# Altium footprint library switch-dil.PCBLIB: 88 footprints (part 4 of 6)
Each footprint in its own frame and in the unit in brackets; x right, y up, seen from the top. Pads: shape width x height; smd on the part's side, far side on the other; paste and mask are expansions set on the pad; w line width, h text height; cw(c..) or ccw(c..) is an arc to the next point about the centre after c.
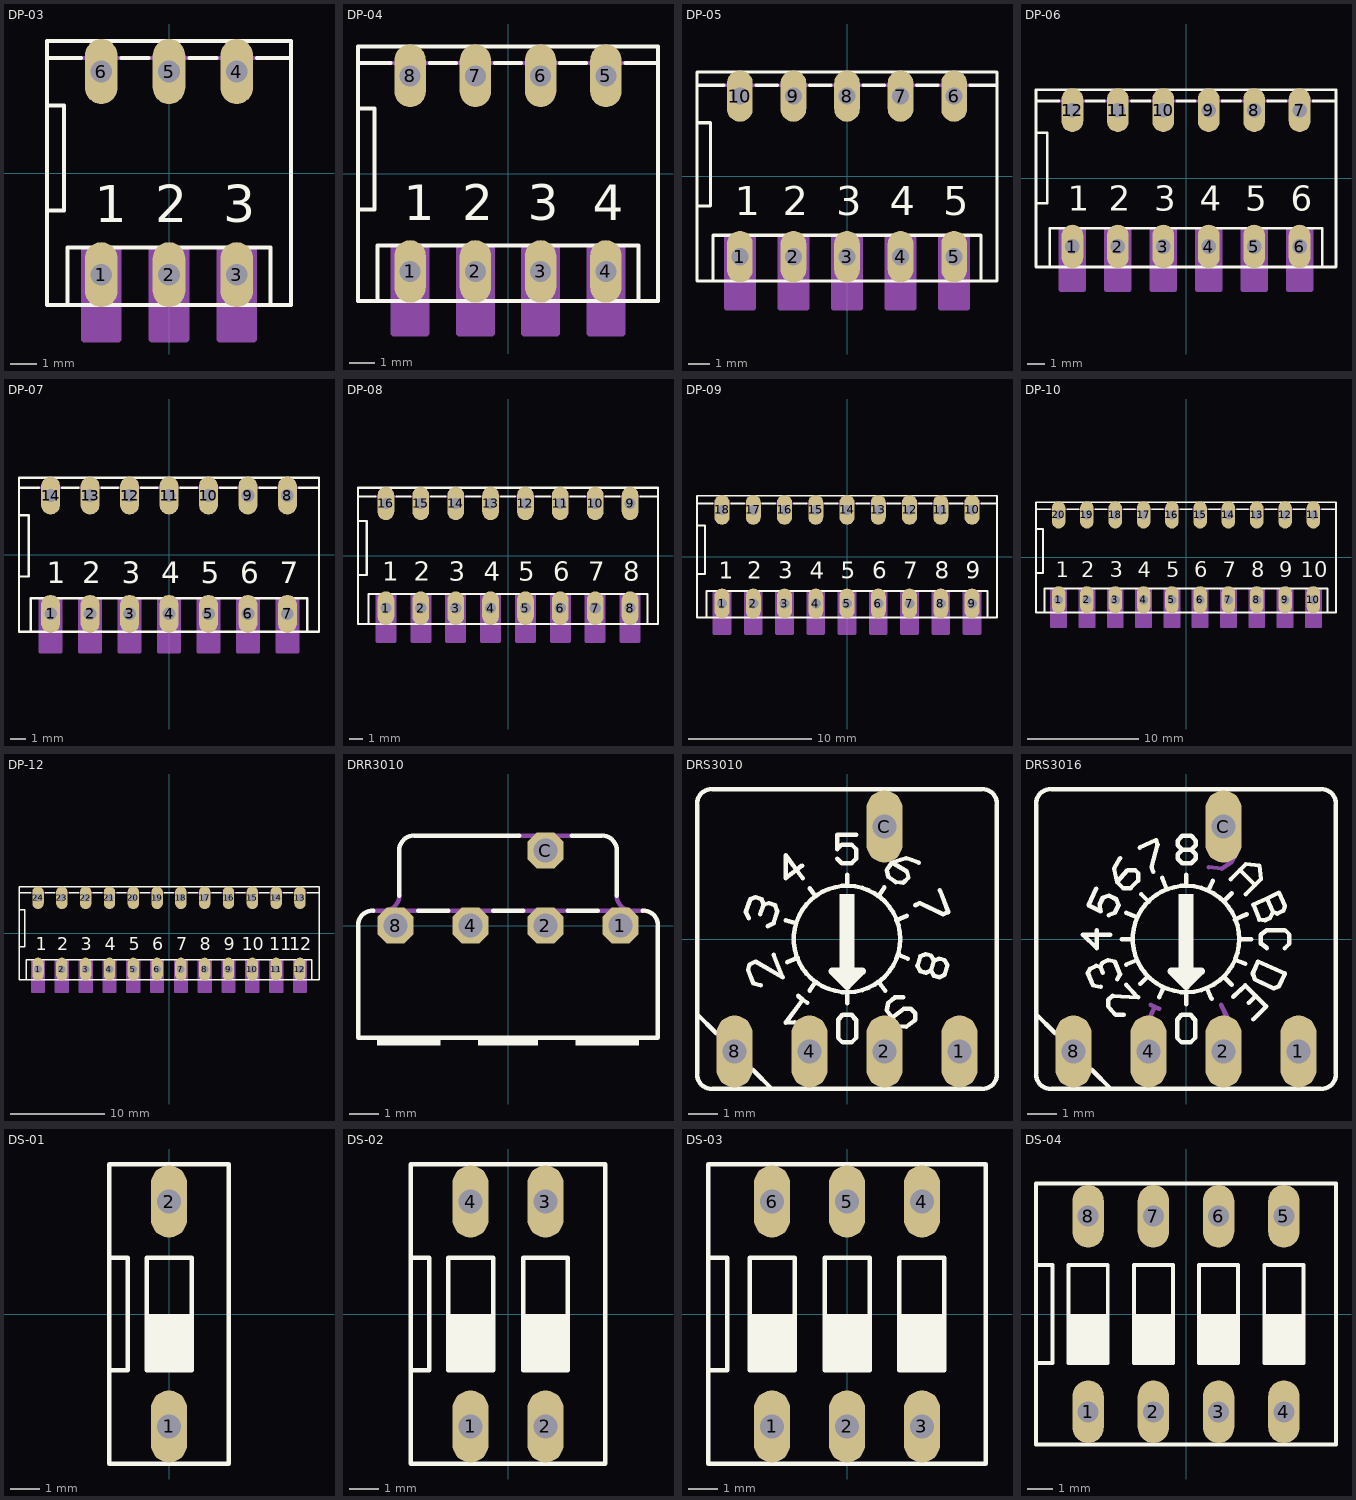
[diagram p3: the footprints below, top view; thin cyan lines are the x and y axes]

## DP-03 [mil]
pads (6):
  oval 48x96 hole 32: 1(-100,-150) 2(0,-150) 3(100,-150) 4(100,150) 5(0,150) 6(-100,150)
Top Overlay:
  lines w6: -180,-55 -155,-55 -155,100 -180,100 ; -130,170 -180,170 ; -70,170 -30,170 ; 30,170 70,170 ; 130,170 180,170 ; -180,170 -180,195 180,195 180,170 ; -180,170 -180,-195 -150,-195 ; -150,-195 -150,-110 150,-110 150,-195 ; -150,-195 150,-195 ; 150,-195 180,-195 180,170
  text "1" at -110,-90 h93
  text "2" at -20,-90 h93
  text "3" at 80,-90 h93
Mechanical 16:
  rectangle: -130,-245 -70,-110
  rectangle: -30,-245 30,-110
  rectangle: 70,-245 130,-110
  lines w6: -130,170 -70,170 ; -30,170 30,170 ; 70,170 130,170
  lines w10: -125,-245 -75,-245 ; -25,-245 25,-245 ; 75,-245 125,-245

## DP-04 [mil]
pads (8):
  oval 48x96 hole 32: 1(-150,-150) 2(-50,-150) 3(50,-150) 4(150,-150) 5(150,150) 6(50,150) 7(-50,150) 8(-150,150)
Top Overlay:
  lines w6: -180,170 -230,170 ; -120,170 -80,170 ; -20,170 20,170 ; 80,170 120,170 ; 180,170 230,170 ; -230,-55 -230,100 ; -230,-55 -230,-195 -200,-195 ; -230,-55 -205,-55 -205,100 -230,100 ; -230,100 -230,170 ; -230,170 -230,195 230,195 230,170 ; -200,-195 -200,-110 200,-110 200,-195 ; -200,-195 200,-195 ; 200,-195 230,-195 230,170
  text "1" at -160,-90 h93
  text "2" at -70,-90 h93
  text "3" at 30,-90 h93
  text "4" at 130,-90 h93
Mechanical 16:
  rectangle: -180,-245 -120,-110
  rectangle: -80,-245 -20,-110
  rectangle: 20,-245 80,-110
  rectangle: 120,-245 180,-110
  lines w6: -180,170 -120,170 ; -80,170 -20,170 ; 20,170 80,170 ; 120,170 180,170
  lines w10: -175,-245 -125,-245 ; -75,-245 -25,-245 ; 25,-245 75,-245 ; 125,-245 175,-245

## DP-05 [mil]
pads (10):
  oval 48x96 hole 32: 1(-200,-150) 2(-100,-150) 3(0,-150) 4(100,-150) 5(200,-150) 6(200,150) 7(100,150) 8(0,150) 9(-100,150) 10(-200,150)
Top Overlay:
  lines w6: -230,170 -280,170 ; -170,170 -130,170 ; -70,170 -30,170 ; 30,170 70,170 ; 130,170 170,170 ; 230,170 280,170 ; -280,-55 -280,100 ; -280,-55 -280,-195 -250,-195 ; -280,-55 -255,-55 -255,100 -280,100 ; -280,100 -280,170 ; -280,170 -280,195 280,195 280,170 ; -250,-195 -250,-110 250,-110 250,-195 ; -250,-195 250,-195 ; 250,-195 280,-195 280,170
  text "1" at -210,-90 h93
  text "2" at -120,-90 h93
  text "3" at -20,-90 h93
  text "4" at 80,-90 h93
  text "5" at 180,-90 h93
Mechanical 16:
  rectangle: -230,-245 -170,-110
  rectangle: -130,-245 -70,-110
  rectangle: -30,-245 30,-110
  rectangle: 70,-245 130,-110
  rectangle: 170,-245 230,-110
  lines w6: -230,170 -170,170 ; -130,170 -70,170 ; -30,170 30,170 ; 70,170 130,170 ; 170,170 230,170
  lines w10: -225,-245 -175,-245 ; -125,-245 -75,-245 ; -25,-245 25,-245 ; 75,-245 125,-245 ; 175,-245 225,-245

## DP-06 [mil]
pads (12):
  oval 48x96 hole 32: 1(-250,-150) 2(-150,-150) 3(-50,-150) 4(50,-150) 5(150,-150) 6(250,-150) 7(250,150) 8(150,150) 9(50,150) 10(-50,150) 11(-150,150) 12(-250,150)
Top Overlay:
  lines w6: -280,170 -330,170 ; -220,170 -180,170 ; -120,170 -80,170 ; -20,170 20,170 ; 80,170 120,170 ; 180,170 220,170 ; 280,170 330,170 ; -330,-55 -330,100 ; -330,-55 -330,-195 -300,-195 ; -330,-55 -305,-55 -305,100 -330,100 ; -330,100 -330,170 ; -330,170 -330,195 330,195 330,170 ; -300,-195 -300,-110 300,-110 300,-195 ; -300,-195 300,-195 ; 300,-195 330,-195 330,170
  text "1" at -260,-90 h93
  text "2" at -170,-90 h93
  text "3" at -70,-90 h93
  text "4" at 30,-90 h93
  text "5" at 130,-90 h93
  text "6" at 230,-90 h93
Mechanical 16:
  rectangle: -280,-245 -220,-110
  rectangle: -180,-245 -120,-110
  rectangle: -80,-245 -20,-110
  rectangle: 20,-245 80,-110
  rectangle: 120,-245 180,-110
  rectangle: 220,-245 280,-110
  lines w6: -280,170 -220,170 ; -180,170 -120,170 ; -80,170 -20,170 ; 20,170 80,170 ; 120,170 180,170 ; 220,170 280,170
  lines w10: -275,-245 -225,-245 ; -175,-245 -125,-245 ; -75,-245 -25,-245 ; 25,-245 75,-245 ; 125,-245 175,-245 ; 225,-245 275,-245

## DP-07 [mil]
pads (14):
  oval 48x96 hole 32: 1(-300,-150) 2(-200,-150) 3(-100,-150) 4(0,-150) 5(100,-150) 6(200,-150) 7(300,-150) 8(300,150) 9(200,150) 10(100,150) 11(0,150) 12(-100,150) 13(-200,150) 14(-300,150)
Top Overlay:
  lines w6: -330,170 -380,170 ; -270,170 -230,170 ; -170,170 -130,170 ; -70,170 -30,170 ; 30,170 70,170 ; 130,170 170,170 ; 230,170 270,170 ; 330,170 380,170 ; -380,-55 -380,100 ; -380,-55 -380,-195 -350,-195 ; -380,-55 -355,-55 -355,100 -380,100 ; -380,100 -380,170 ; -380,170 -380,195 380,195 380,170 ; -350,-195 -350,-110 350,-110 350,-195 ; -350,-195 350,-195 ; 350,-195 380,-195 380,170
  text "1" at -310,-90 h93
  text "2" at -220,-90 h93
  text "3" at -120,-90 h93
  text "4" at -20,-90 h93
  text "5" at 80,-90 h93
  text "6" at 180,-90 h93
  text "7" at 280,-90 h93
Mechanical 16:
  rectangle: -330,-245 -270,-110
  rectangle: -230,-245 -170,-110
  rectangle: -130,-245 -70,-110
  rectangle: -30,-245 30,-110
  rectangle: 70,-245 130,-110
  rectangle: 170,-245 230,-110
  rectangle: 270,-245 330,-110
  lines w6: -330,170 -270,170 ; -230,170 -170,170 ; -130,170 -70,170 ; -30,170 30,170 ; 70,170 130,170 ; 170,170 230,170 ; 270,170 330,170
  lines w10: -325,-245 -275,-245 ; -225,-245 -175,-245 ; -125,-245 -75,-245 ; -25,-245 25,-245 ; 75,-245 125,-245 ; 175,-245 225,-245 ; 275,-245 325,-245

## DP-08 [mil]
pads (16):
  oval 48x96 hole 32: 1(-350,-150) 2(-250,-150) 3(-150,-150) 4(-50,-150) 5(50,-150) 6(150,-150) 7(250,-150) 8(350,-150) 9(350,150) 10(250,150) 11(150,150) 12(50,150) 13(-50,150) 14(-150,150) 15(-250,150) 16(-350,150)
Top Overlay:
  lines w6: -380,170 -430,170 ; -320,170 -280,170 ; -220,170 -180,170 ; -120,170 -80,170 ; -20,170 20,170 ; 80,170 120,170 ; 180,170 220,170 ; 280,170 320,170 ; 380,170 430,170 ; -430,-55 -430,100 ; -430,-55 -430,-195 -400,-195 ; -430,-55 -405,-55 -405,100 -430,100 ; -430,100 -430,170 ; -430,170 -430,195 430,195 430,170 ; -400,-195 -400,-110 400,-110 400,-195 ; -400,-195 400,-195 ; 400,-195 430,-195 430,170
  text "1" at -360,-90 h93
  text "2" at -270,-90 h93
  text "3" at -170,-90 h93
  text "4" at -70,-90 h93
  text "5" at 30,-90 h93
  text "6" at 130,-90 h93
  text "7" at 230,-90 h93
  text "8" at 330,-90 h93
Mechanical 16:
  rectangle: -380,-245 -320,-110
  rectangle: -280,-245 -220,-110
  rectangle: -180,-245 -120,-110
  rectangle: -80,-245 -20,-110
  rectangle: 20,-245 80,-110
  rectangle: 120,-245 180,-110
  rectangle: 220,-245 280,-110
  rectangle: 320,-245 380,-110
  lines w6: -380,170 -320,170 ; -280,170 -220,170 ; -180,170 -120,170 ; -80,170 -20,170 ; 20,170 80,170 ; 120,170 180,170 ; 220,170 280,170 ; 320,170 380,170
  lines w10: -375,-245 -325,-245 ; -275,-245 -225,-245 ; -175,-245 -125,-245 ; -75,-245 -25,-245 ; 25,-245 75,-245 ; 125,-245 175,-245 ; 225,-245 275,-245 ; 325,-245 375,-245

## DP-09 [mil]
pads (18):
  oval 48x96 hole 32: 1(-400,-150) 2(-300,-150) 3(-200,-150) 4(-100,-150) 5(0,-150) 6(100,-150) 7(200,-150) 8(300,-150) 9(400,-150) 10(400,150) 11(300,150) 12(200,150) 13(100,150) 14(0,150) 15(-100,150) 16(-200,150) 17(-300,150) 18(-400,150)
Top Overlay:
  lines w6: -430,170 -480,170 ; -370,170 -330,170 ; -270,170 -230,170 ; -170,170 -130,170 ; -70,170 -30,170 ; 30,170 70,170 ; 130,170 170,170 ; 230,170 270,170 ; 330,170 370,170 ; 430,170 480,170 ; -480,-55 -480,100 ; -480,-55 -480,-195 -450,-195 ; -480,-55 -455,-55 -455,100 -480,100 ; -480,100 -480,170 ; -480,170 -480,195 480,195 480,170 ; -450,-195 -450,-110 450,-110 450,-195 ; -450,-195 450,-195 ; 450,-195 480,-195 480,170
  text "1" at -410,-90 h93
  text "2" at -320,-90 h93
  text "3" at -220,-90 h93
  text "4" at -120,-90 h93
  text "5" at -20,-90 h93
  text "6" at 80,-90 h93
  text "7" at 180,-90 h93
  text "8" at 280,-90 h93
  text "9" at 380,-90 h93
Mechanical 16:
  rectangle: -430,-245 -370,-110
  rectangle: -330,-245 -270,-110
  rectangle: -230,-245 -170,-110
  rectangle: -130,-245 -70,-110
  rectangle: -30,-245 30,-110
  rectangle: 70,-245 130,-110
  rectangle: 170,-245 230,-110
  rectangle: 270,-245 330,-110
  rectangle: 370,-245 430,-110
  lines w6: -430,170 -370,170 ; -330,170 -270,170 ; -230,170 -170,170 ; -130,170 -70,170 ; -30,170 30,170 ; 70,170 130,170 ; 170,170 230,170 ; 270,170 330,170 ; 370,170 430,170
  lines w10: -425,-245 -375,-245 ; -325,-245 -275,-245 ; -225,-245 -175,-245 ; -125,-245 -75,-245 ; -25,-245 25,-245 ; 75,-245 125,-245 ; 175,-245 225,-245 ; 275,-245 325,-245 ; 375,-245 425,-245

## DP-10 [mil]
pads (20):
  oval 48x96 hole 32: 1(-450,-150) 2(-350,-150) 3(-250,-150) 4(-150,-150) 5(-50,-150) 6(50,-150) 7(150,-150) 8(250,-150) 9(350,-150) 10(450,-150) 11(450,150) 12(350,150) 13(250,150) 14(150,150) 15(50,150) 16(-50,150) 17(-150,150) 18(-250,150) 19(-350,150) 20(-450,150)
Top Overlay:
  lines w6: -480,170 -530,170 ; -420,170 -380,170 ; -320,170 -280,170 ; -220,170 -180,170 ; -120,170 -80,170 ; -20,170 20,170 ; 80,170 120,170 ; 180,170 220,170 ; 280,170 320,170 ; 380,170 420,170 ; 480,170 530,170 ; -530,-55 -530,100 ; -530,-55 -530,-195 -500,-195 ; -530,-55 -505,-55 -505,100 -530,100 ; -530,100 -530,170 ; -530,170 -530,195 530,195 530,170 ; -500,-195 -500,-110 500,-110 500,-195 ; -500,-195 500,-195 ; 500,-195 530,-195 530,170
  text "1" at -460,-90 h93
  text "2" at -370,-90 h93
  text "3" at -270,-90 h93
  text "4" at -170,-90 h93
  text "5" at -70,-90 h93
  text "6" at 30,-90 h93
  text "7" at 130,-90 h93
  text "8" at 230,-90 h93
  text "9" at 330,-90 h93
  text "10" at 405,-90 h93
Mechanical 16:
  rectangle: -480,-245 -420,-110
  rectangle: -380,-245 -320,-110
  rectangle: -280,-245 -220,-110
  rectangle: -180,-245 -120,-110
  rectangle: -80,-245 -20,-110
  rectangle: 20,-245 80,-110
  rectangle: 120,-245 180,-110
  rectangle: 220,-245 280,-110
  rectangle: 320,-245 380,-110
  rectangle: 420,-245 480,-110
  lines w6: -480,170 -420,170 ; -380,170 -320,170 ; -280,170 -220,170 ; -180,170 -120,170 ; -80,170 -20,170 ; 20,170 80,170 ; 120,170 180,170 ; 220,170 280,170 ; 320,170 380,170 ; 420,170 480,170
  lines w10: -475,-245 -425,-245 ; -375,-245 -325,-245 ; -275,-245 -225,-245 ; -175,-245 -125,-245 ; -75,-245 -25,-245 ; 25,-245 75,-245 ; 125,-245 175,-245 ; 225,-245 275,-245 ; 325,-245 375,-245 ; 425,-245 475,-245

## DP-12 [mil]
pads (24):
  oval 48x96 hole 32: 1(-550,-150) 2(-450,-150) 3(-350,-150) 4(-250,-150) 5(-150,-150) 6(-50,-150) 7(50,-150) 8(150,-150) 9(250,-150) 10(350,-150) 11(450,-150) 12(550,-150) 13(550,150) 14(450,150) 15(350,150) 16(250,150) 17(150,150) 18(50,150) 19(-50,150) 20(-150,150) 21(-250,150) 22(-350,150) 23(-450,150) 24(-550,150)
Top Overlay:
  lines w6: -580,170 -630,170 ; -520,170 -480,170 ; -420,170 -380,170 ; -320,170 -280,170 ; -220,170 -180,170 ; -120,170 -80,170 ; -20,170 20,170 ; 80,170 120,170 ; 180,170 220,170 ; 280,170 320,170 ; 380,170 420,170 ; 480,170 520,170 ; 580,170 630,170 ; -630,-55 -630,100 ; -630,-55 -630,-195 -600,-195 ; -630,-55 -605,-55 -605,100 -630,100 ; -630,100 -630,170 ; -630,170 -630,195 630,195 630,170 ; -600,-195 -600,-110 600,-110 600,-195 ; -600,-195 600,-195 ; 600,-195 630,-195 630,170
  text "1" at -560,-90 h93
  text "2" at -470,-90 h93
  text "3" at -370,-90 h93
  text "4" at -270,-90 h93
  text "5" at -170,-90 h93
  text "6" at -70,-90 h93
  text "7" at 30,-90 h93
  text "8" at 130,-90 h93
  text "9" at 230,-90 h93
  text "10" at 305,-90 h93
  text "11" at 420,-90 h93
  text "12" at 505,-90 h93
Mechanical 16:
  rectangle: -580,-245 -520,-110
  rectangle: -480,-245 -420,-110
  rectangle: -380,-245 -320,-110
  rectangle: -280,-245 -220,-110
  rectangle: -180,-245 -120,-110
  rectangle: -80,-245 -20,-110
  rectangle: 20,-245 80,-110
  rectangle: 120,-245 180,-110
  rectangle: 220,-245 280,-110
  rectangle: 320,-245 380,-110
  rectangle: 420,-245 480,-110
  rectangle: 520,-245 580,-110
  lines w6: -580,170 -520,170 ; -480,170 -420,170 ; -380,170 -320,170 ; -280,170 -220,170 ; -180,170 -120,170 ; -80,170 -20,170 ; 20,170 80,170 ; 120,170 180,170 ; 220,170 280,170 ; 320,170 380,170 ; 420,170 480,170 ; 520,170 580,170
  lines w10: -575,-245 -525,-245 ; -475,-245 -425,-245 ; -375,-245 -325,-245 ; -275,-245 -225,-245 ; -175,-245 -125,-245 ; -75,-245 -25,-245 ; 25,-245 75,-245 ; 125,-245 175,-245 ; 225,-245 275,-245 ; 325,-245 375,-245 ; 425,-245 475,-245 ; 525,-245 575,-245

## DRR3010 [mil]
pads (5):
  oct 48x48 hole 32: 1(150,0) 2(50,0) 4(-50,0) 8(-150,0) C(50,100)
Top Overlay:
  rectangle: -175,-160 -90,-150
  rectangle: 90,-160 175,-150
  rectangle: -40,-160 40,-150
  lines w6: -180,20 ccw(c-180,0) -200,0 -200,-150 200,-150 200,0 ccw(c180,0) 180,20 ; -145,40 -145,100 cw(c-125,100) -125,120 15,120 ; -120,20 -80,20 ; -20,20 20,20 ; 80,20 120,20 ; 85,120 125,120 cw(c125,100) 145,100 145,40
Mechanical 16:
  lines w6: -180,20 -120,20 ; -165,20 ccw(c-165,40) -145,40 ; -80,20 -20,20 ; 15,120 85,120 ; 20,20 80,20 ; 120,20 180,20 ; 145,40 ccw(c165,40) 165,20

## DRS3010 [mil]
pads (5):
  oval 48x96 hole 32: 1(150,-150) 2(50,-150) 4(-50,-150) 8(-150,-150) C(50,150)
Top Overlay:
  circle w6: c0,0 r71
  rectangle: -10,-40 10,60
  lines w6: -175,-125 -200,-100 ; -131,28 -135,36 -129,53 -122,56 -114,53 -111,46 ; -125,-175 -100,-200 ; -116,33 -111,46 ; -115,-62 -125,-59 -132,-41 -130,-34 -122,-30 -86,-51 -98,-21 ; -106,17 -98,21 -93,37 -96,45 -104,48 -111,46 ; -82,25 -68,21 ; -80,-31 -66,-25 ; -70,-111 -82,-112 -59,-81 ; -65,-76 -59,-81 ; -60,98 -82,81 -82,112 -59,81 ; -53,-85 -59,-81 ; -50,-69 -42,-57 ; -50,68 -42,57 ; -13,107 -7,101 6,101 12,107 12,120 6,126 -7,126 -13,120 -13,139 12,139 ; 0,-86 0,-72 ; 0,71 0,86 ; 42,-57 51,-69 ; 42,57 50,69 ; 66,25 80,31 ; 68,-21 81,-26 ; 75,-78 64,-78 55,-85 53,-95 60,-105 ; 91,45 97,48 128,33 135,36 124,65 ; 96,102 79,108 60,102 ; -200,-100 -200,-180 ccw(c-180,-180) -180,-200 -100,-200 ; -200,-100 -200,180 cw(c-180,180) -180,200 180,200 cw(c180,180) 200,180 200,-180 cw(c180,-180) 180,-200 -100,-200 ; 60,-105 76,-93 85,-93 91,-99 91,-108 79,-117 68,-116 60,-105 ; 60,102 80,90 82,82 75,75 65,76 55,83 53,92 60,102 ; 112,-42 116,-29 ; 112,-42 105,-45 98,-43 94,-36 98,-23 105,-20 112,-22 116,-29 ; 112,-42 116,-49 123,-51 130,-48 134,-35 130,-28 123,-26 116,-29 ; -12,-132 -12,-108 -6,-101 6,-101 12,-108 12,-132 6,-138 -6,-138 -12,-132
  lines w10: -10,-48 10,-48 ; 0,-58 0,-53 ; -20,-43 0,-63 20,-43 -20,-43
Mechanical 16:
  lines w6: -175,-125 -125,-175

## DRS3016 [mil]
pads (5):
  oval 48x96 hole 32: 1(150,-150) 2(50,-150) 4(-50,-150) 8(-150,-150) C(50,150)
Top Overlay:
  circle w6: c0,0 r71
  rectangle: -10,-40 10,60
  lines w6: -175,-125 -200,-100 ; -125,-175 -100,-200 ; -120,67 -130,45 -114,37 -115,46 -111,55 -103,58 -93,53 -90,45 -95,35 -103,32 ; -119,12 -119,-12 -138,6 -101,6 ; -114,-64 -124,-62 -131,-45 -128,-40 -120,-36 -114,-37 ; -111,-45 -114,-37 ; -92,-54 -88,-47 -95,-30 -104,-28 -112,-32 -114,-37 ; -88,108 -96,94 -92,76 ; -86,0 -71,0 ; -83,-101 -94,-101 -104,-90 -104,-81 -98,-76 -64,-78 -80,-61 ; -80,-34 -65,-28 ; -80,35 -65,29 ; -62,122 -40,132 -38,126 -46,96 -44,90 ; -61,-60 -51,-50 ; -60,60 -50,50 ; -36,-78 -30,-65 ; -32,82 -26,67 ; 0,-87 0,-72 ; 0,71 0,86 ; 28,-66 34,-80 ; 30,65 36,78 ; 51,-51 61,-61 ; 51,51 61,61 ; 60,80 72,92 ; 63,-77 79,-62 93,-76 ; 65,26 81,33 ; 66,-28 79,-33 ; 72,0 87,0 ; 80,60 92,72 ; 84,-85 93,-76 ; 90,-107 107,-90 93,-76 ; 108,-12 100,-6 100,6 108,12 132,12 138,6 138,-6 132,-12 ; -200,-100 -200,-180 ccw(c-180,-180) -180,-200 -100,-200 ; -200,-100 -200,180 cw(c-180,180) -180,200 180,200 cw(c180,180) 200,180 200,-180 cw(c180,-180) 180,-200 -100,-200 ; -92,76 -78,92 -68,92 -64,88 -64,78 -74,68 -84,68 -92,76 ; -5,119 -11,125 -11,131 -5,138 7,138 13,131 13,125 7,119 ; -5,119 -11,113 -11,107 -5,101 7,101 13,107 13,113 7,119 ; -5,119 7,119 ; 72,92 92,72 ; 72,92 80,100 98,98 100,80 92,72 ; 108,54 90,46 98,26 105,25 112,28 116,36 ; 108,54 116,36 ; 108,54 124,62 132,44 130,38 122,34 116,36 ; -12,-132 -12,-108 -6,-101 6,-101 12,-108 12,-132 6,-138 -6,-138 -12,-132 ; 89,-46 96,-30 132,-46 124,-63 117,-66 92,-54 89,-46
  lines w10: -10,-48 10,-48 ; 0,-58 0,-53 ; -20,-43 0,-63 20,-43 -20,-43
Mechanical 16:
  lines w6: -175,-125 -125,-175 ; -47,-88 -36,-93 ; -45,-122 -57,-124 -42,-91 ; 30,96 48,94 60,102 ; 41,-111 55,-105 ; 44,-131 63,-122 55,-105 ; 47,-88 55,-105 ; 60,102 42,110 38,120 42,128 52,130 64,124 66,112 60,102

## DS-01 [mil]
pads (2):
  oval 48x96 hole 32: 1(0,-150) 2(0,150)
Top Overlay:
  rectangle: -30,-75 30,0
  lines w6: -80,-75 -80,75 ; -80,-75 -80,-200 80,-200 80,200 -80,200 -80,75 ; -80,-75 -55,-75 -55,75 -80,75 ; -30,-75 -30,75 30,75 30,-75 -30,-75
Mechanical 16:
  text "1" at -10,-135 h60.45
  text "ON" at -30,95 h60.45

## DS-02 [mil]
pads (4):
  oval 48x96 hole 32: 1(-50,-150) 2(50,-150) 3(50,150) 4(-50,150)
Top Overlay:
  rectangle: -80,-75 -20,0
  rectangle: 20,-75 80,0
  lines w6: -130,-75 -130,75 ; -130,-75 -130,-200 130,-200 130,200 -130,200 -130,75 ; -130,-75 -105,-75 -105,75 -130,75 ; -80,-75 -80,75 -20,75 -20,-75 -80,-75 ; 20,-75 20,75 80,75 80,-75 20,-75
Mechanical 16:
  text "1" at -60,-135 h60.45
  text "2" at 35,-135 h60.45
  text "ON" at -105,95 h60.45

## DS-03 [mil]
pads (6):
  oval 48x96 hole 32: 1(-100,-150) 2(0,-150) 3(100,-150) 4(100,150) 5(0,150) 6(-100,150)
Top Overlay:
  rectangle: -130,-75 -70,0
  rectangle: -30,-75 30,0
  rectangle: 70,-75 130,0
  lines w6: -185,-75 -185,75 ; -185,-75 -185,-200 185,-200 185,200 -185,200 -185,75 ; -185,-75 -160,-75 -160,75 -185,75 ; -130,-75 -130,75 -70,75 -70,-75 -130,-75 ; -30,-75 -30,75 30,75 30,-75 -30,-75 ; 70,-75 70,75 130,75 130,-75 70,-75
Mechanical 16:
  text "1" at -110,-135 h60.45
  text "2" at -10,-135 h60.45
  text "3" at 85,-135 h60.45
  text "ON" at -130,95 h60.45

## DS-04 [mil]
pads (8):
  oval 48x96 hole 32: 1(-150,-150) 2(-50,-150) 3(50,-150) 4(150,-150) 5(150,150) 6(50,150) 7(-50,150) 8(-150,150)
Top Overlay:
  rectangle: -180,-75 -120,0
  rectangle: -80,-75 -20,0
  rectangle: 20,-75 80,0
  rectangle: 120,-75 180,0
  lines w6: -230,-75 -230,75 ; -230,-75 -230,-200 230,-200 230,200 -230,200 -230,75 ; -230,-75 -205,-75 -205,75 -230,75 ; -180,-75 -180,75 -120,75 -120,-75 -180,-75 ; -80,-75 -80,75 -20,75 -20,-75 -80,-75 ; 20,-75 20,75 80,75 80,-75 20,-75 ; 120,-75 120,75 180,75 180,-75 120,-75
Mechanical 16:
  text "1" at -160,-135 h60.45
  text "2" at -65,-135 h60.45
  text "3" at 35,-135 h60.45
  text "4" at 135,-135 h60.45
  text "ON" at -180,95 h60.45